# Altium footprint library F407_MB.PcbLib: 57 footprints (part 3 of 4)
Each footprint in its own frame and in the unit in brackets; x right, y up, seen from the top. Pads: shape width x height; smd on the part's side, far side on the other; paste and mask are expansions set on the pad; w line width, h text height; cw(c..) or ccw(c..) is an arc to the next point about the centre after c.
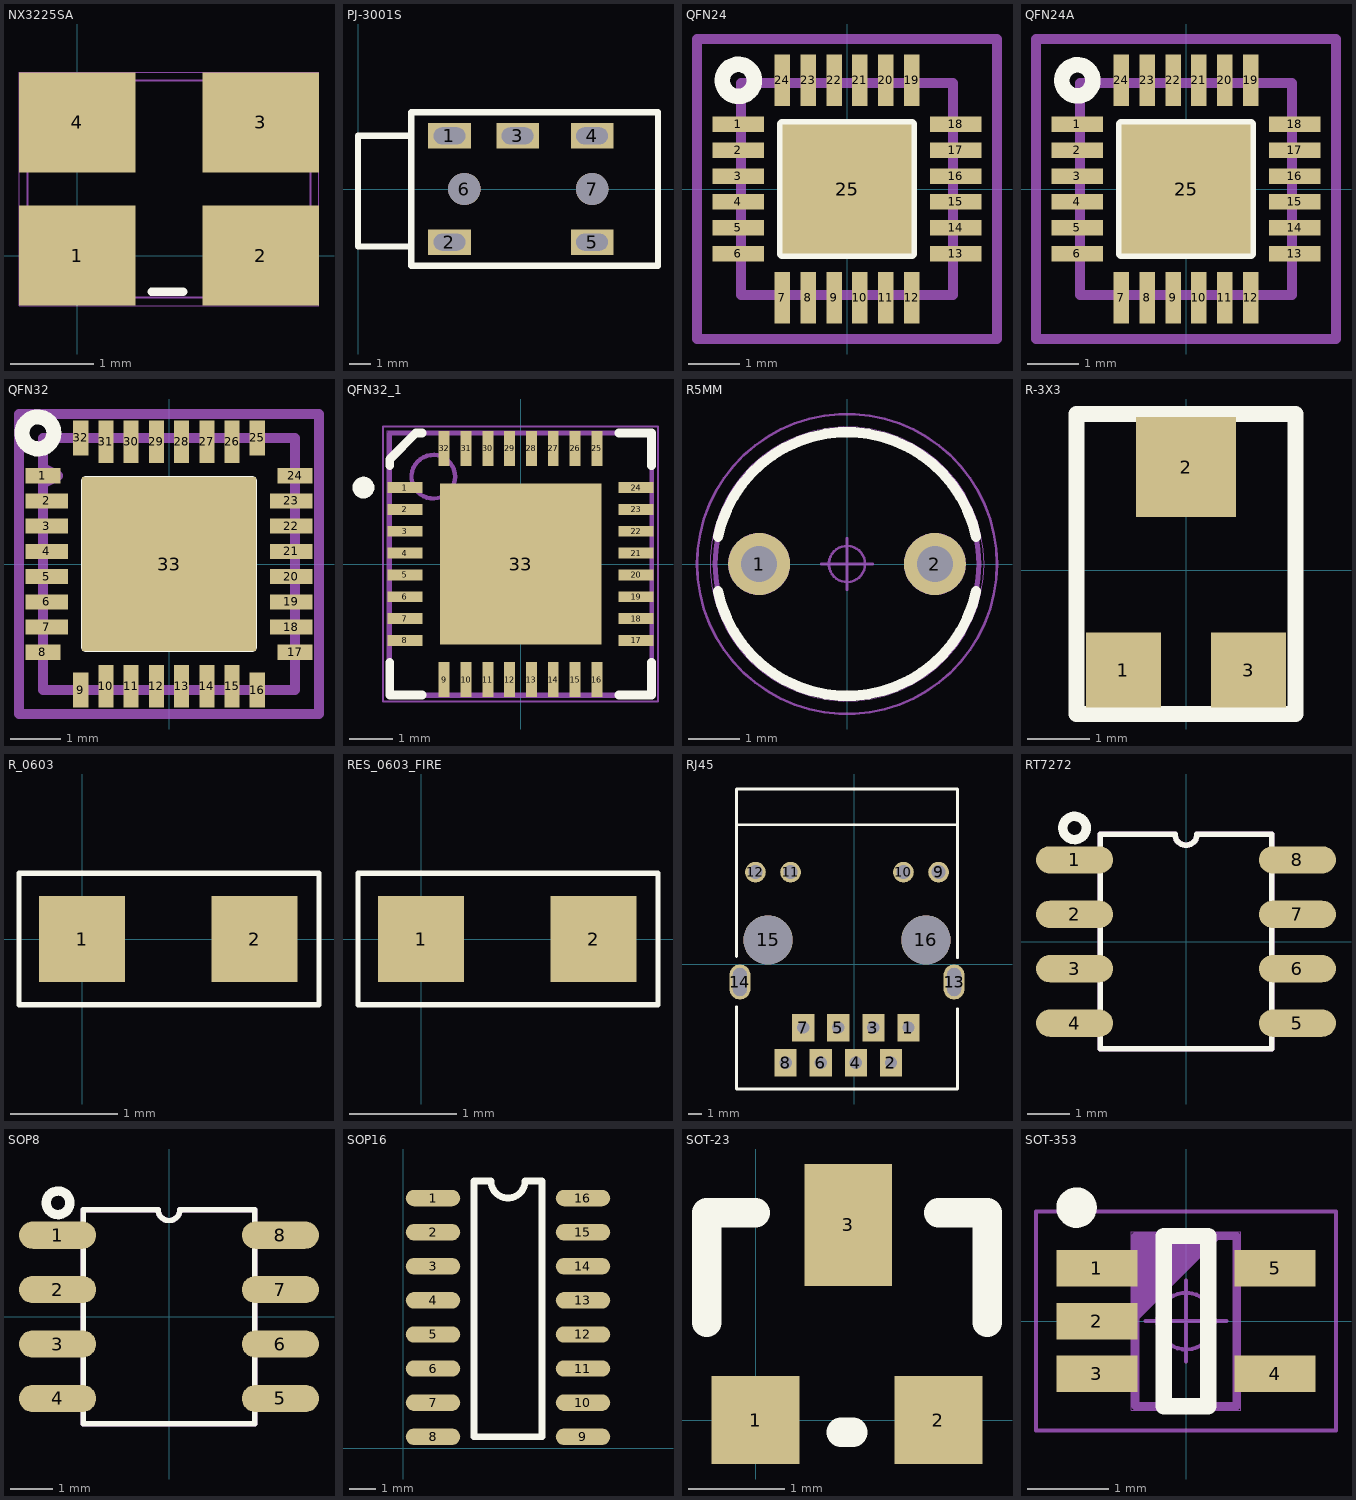
[diagram p2: the footprints below, top view; thin cyan lines are the x and y axes]

## NX3225SA [mm]
pads (4):
  rect 1.4x1.2 smd paste-0.06 mask+0.05: 1(0,0) 2(2.2,0) 3(2.2,1.6) 4(0,1.6)
Top Overlay:
  lines w0.1: 0.889,-0.432 1.27,-0.432
Mechanical 16:
  lines w0.003: -0.7,-0.6 2.9,-0.6 2.9,2.2 -0.7,2.2 -0.7,-0.6
  lines w0.025: -0.6,-0.5 2.8,-0.5 2.8,2.1 -0.6,2.1 -0.6,-0.5

## PJ-3001S [mm]
pads (7):
  rect 2x1.2 hole 0.787 slot 1.499 at 0 deg: 1(4.3,2.5) 2(4.3,-2.5) 3(7.5,2.5) 4(11,2.5) 5(11,-2.5)
  round 1.524 hole 1.524 unplated: 6(5,0) 7(11,0)
Top Overlay:
  lines w0.3: 0,-2.7 0,2.5 2.5,2.5 ; 0.1,-2.7 2.5,-2.7 ; 2.5,-3.6 14.1,-3.6 14.1,3.6 2.5,3.6 2.5,-3.6

## QFN24 [mm]
pads (25):
  rect 1x0.3 smd: 1(-2.1,1.25) 2(-2.1,0.75) 3(-2.1,0.25) 4(-2.1,-0.25) 5(-2.1,-0.75) 6(-2.1,-1.25) 13(2.1,-1.25) 14(2.1,-0.75) 15(2.1,-0.25) 16(2.1,0.25) 17(2.1,0.75) 18(2.1,1.25)
  rect 0.3x1 smd: 7(-1.25,-2.1) 8(-0.75,-2.1) 9(-0.25,-2.1) 10(0.25,-2.1) 11(0.75,-2.1) 12(1.25,-2.1) 19(1.25,2.1) 20(0.75,2.1) 21(0.25,2.1) 22(-0.25,2.1) 23(-0.75,2.1) 24(-1.25,2.1)
  rect 2.5x2.5 smd: 25(0,0)
Top Overlay:
  circle w0.3: c-2.1,2.1 r0.31
  lines w0.2: -1.25,-1.25 1.25,-1.25 1.25,1.25 -1.25,1.25 -1.25,-1.25
Mechanical 1:
  lines w0.2: -2.05,-2.05 2.05,-2.05 2.05,2.05 -2.05,2.05 -2.05,-2.05
Mechanical 16:
  lines w0.2: -0.5,0 0,0 ; 0,-0.5 0,0 ; 0,0.5 0,0 ; 0.5,0 0,0 ; -2.9,-2.9 2.9,-2.9 2.9,2.9 -2.9,2.9 -2.9,-2.9

## QFN24A [mm]
pads (25):
  rect 1x0.3 smd: 1(-2.1,1.25) 2(-2.1,0.75) 3(-2.1,0.25) 4(-2.1,-0.25) 5(-2.1,-0.75) 6(-2.1,-1.25) 13(2.1,-1.25) 14(2.1,-0.75) 15(2.1,-0.25) 16(2.1,0.25) 17(2.1,0.75) 18(2.1,1.25)
  rect 0.3x1 smd: 7(-1.25,-2.1) 8(-0.75,-2.1) 9(-0.25,-2.1) 10(0.25,-2.1) 11(0.75,-2.1) 12(1.25,-2.1) 19(1.25,2.1) 20(0.75,2.1) 21(0.25,2.1) 22(-0.25,2.1) 23(-0.75,2.1) 24(-1.25,2.1)
  rect 2.5x2.5 smd: 25(0,0)
Top Overlay:
  circle w0.3: c-2.1,2.1 r0.3
  lines w0.2: -1.25,-1.25 1.25,-1.25 1.25,1.25 -1.25,1.25 -1.25,-1.25
Mechanical 1:
  lines w0.2: -2.05,-2.05 2.05,-2.05 2.05,2.05 -2.05,2.05 -2.05,-2.05
Mechanical 16:
  lines w0.2: -0.5,0 0,0 ; 0,-0.5 0,0 ; 0,0.5 0,0 ; 0.5,0 0,0 ; -2.9,-2.9 2.9,-2.9 2.9,2.9 -2.9,2.9 -2.9,-2.9

## QFN32 [mm]
pads (33):
  rect 0.7x0.3 smd: 1(-2.5,1.75) 8(-2.5,-1.75) 17(2.5,-1.75) 24(2.5,1.75)
  rect 0.85x0.3 smd: 2(-2.425,1.25) 3(-2.425,0.75) 4(-2.425,0.25) 5(-2.425,-0.25) 6(-2.425,-0.75) 7(-2.425,-1.25) 18(2.425,-1.25) 19(2.425,-0.75) 20(2.425,-0.25) 21(2.425,0.25) 22(2.425,0.75) 23(2.425,1.25)
  rect 0.3x0.7 smd: 9(-1.75,-2.5) 16(1.75,-2.5) 25(1.75,2.5) 32(-1.75,2.5)
  rect 0.3x0.85 smd: 10(-1.25,-2.425) 11(-0.75,-2.425) 12(-0.25,-2.425) 13(0.25,-2.425) 14(0.75,-2.425) 15(1.25,-2.425) 26(1.25,2.425) 27(0.75,2.425) 28(0.25,2.425) 29(-0.25,2.425) 30(-0.75,2.425) 31(-1.25,2.425)
  rect 3.45x3.45 smd: 33(0,0)
Top Overlay:
  circle w0.3: c-2.6,2.6 r0.316
  lines w0.2: -1.65,-1.65 1.65,-1.65 1.65,1.65 -1.65,1.65 -1.65,-1.65
Mechanical 1:
  lines w0.2: -2.5,-2.5 2.5,-2.5 2.5,2.5 -2.5,2.5 -2.5,1.9 -2.2,1.75 -2.5,1.6 -2.5,-2.5
Mechanical 16:
  lines w0.2: -0.5,0 0,0 ; 0,-0.5 0,0 ; 0,0.5 0,0 ; 0.5,0 0,0 ; -2.975,-2.975 2.975,-2.975 2.975,2.975 -2.975,2.975 -2.975,-2.975

## QFN32_1 [mm]
pads (33):
  rect 0.8x0.25 smd: 1(-2.65,1.75) 2(-2.65,1.25) 3(-2.65,0.75) 4(-2.65,0.25) 5(-2.65,-0.25) 6(-2.65,-0.75) 7(-2.65,-1.25) 8(-2.65,-1.75) 17(2.65,-1.75) 18(2.65,-1.25) 19(2.65,-0.75) 20(2.65,-0.25) 21(2.65,0.25) 22(2.65,0.75) 23(2.65,1.25) 24(2.65,1.75)
  rect 0.25x0.8 smd: 9(-1.75,-2.65) 10(-1.25,-2.65) 11(-0.75,-2.65) 12(-0.25,-2.65) 13(0.25,-2.65) 14(0.75,-2.65) 15(1.25,-2.65) 16(1.75,-2.65) 25(1.75,2.65) 26(1.25,2.65) 27(0.75,2.65) 28(0.25,2.65) 29(-0.25,2.65) 30(-0.75,2.65) 31(-1.25,2.65) 32(-1.75,2.65)
  rect 3.7x3.7 smd paste-0.49: 33(0,0)
Top Overlay:
  circle w0.25: c-3.6,1.75 r0.125
  lines w0.2: -3,-2.25 -3,-3 -2.25,-3 ; -3,2.25 -3,2.4 -2.4,3 -2.25,3 ; 2.25,-3 3,-3 3,-2.25 ; 2.25,3 3,3 3,2.25
Mechanical 1:
  circle w0.1: c-2,2 r0.5
  lines w0.1: -3,-3 -3,3 3,3 3,-3 -3,-3
  text "U14" at -0.971,-0.45 h0.75
Mechanical 16:
  circle w0.05: c0,0 r0.35
  lines w0.001: -3.05,-3.05 -3.05,3.05 3.05,3.05 3.05,-3.05 -3.05,-3.05
  lines w0.05: -0.5,0 0.5,0 ; 0,-0.5 0,0.5 ; -3.15,-3.15 -3.15,3.15 3.15,3.15 3.15,-3.15 -3.15,-3.15

## R5MM [mm]
pads (2):
  round 1.2 hole 0.7: 1(-1.7,0) 2(1.7,0)
Top Overlay:
  lines w0.2: -2.494,-0.53 ccw(c0,0) 2.494,-0.53 ; -2.494,0.53 cw(c0,0) 2.494,0.53
Mechanical 1:
  circle w0.1: c0,0 r2.55
  circle w0.1: c-1.7,0 r0.55
  circle w0.1: c1.7,0 r0.55
  text "D8" at -0.711,-0.502 h0.75
Mechanical 2:
  circle w0.1: c-1.7,0 r0.55
  circle w0.1: c1.7,0 r0.55
Mechanical 16:
  circle w0.001: c0,0 r2.65
  circle w0.05: c0,0 r2.9
  circle w0.05: c0,0 r0.35
  lines w0.05: -0.5,0 0.5,0 ; 0,-0.5 0,0.5

## R-3X3 [mm]
pads (3):
  rect 1.2x1.2 smd: 1(-1,-1.6) 3(1,-1.6)
  rect 1.6x1.6 smd: 2(0,1.65)
Top Overlay:
  lines w0.254: -1.75,2.5 -1.75,-2.3 1.75,-2.3 1.75,2.5 -1.7,2.5

## R_0603 [mm]
pads (2):
  rect 0.8x0.8 smd: 1(0,0) 2(1.6,0)
Top Overlay:
  lines w0.051: -0.584,-0.61 2.197,-0.61 2.197,0.61 -0.584,0.61 -0.584,-0.61

## RES_0603_FIRE [mm]
pads (2):
  rect 0.8x0.8 smd: 1(0,0) 2(1.6,0)
Top Overlay:
  lines w0.051: -0.584,-0.61 2.197,-0.61 2.197,0.61 -0.584,0.61 -0.584,-0.61

## RJ45 [mm]
pads (16):
  rect 1.6x2 hole 0.89: 1(3.942,-4.572) 2(2.672,-7.112) 3(1.402,-4.572) 4(0.132,-7.112) 5(-1.138,-4.572) 6(-2.408,-7.112) 7(-3.678,-4.572) 8(-4.948,-7.112)
  round 1.5 hole 1.02: 9(6.117,6.678) 10(3.577,6.678) 11(-4.593,6.678) 12(-7.133,6.678)
  oval 1.524x2.54 hole 1.016 slot 2.032 at 90 deg: 13(7.242,-1.272) 14(-8.258,-1.272)
  round 3.556 hole 3.556: 15(-6.223,1.778) 16(5.207,1.778)
Top Overlay:
  lines w0.2: -8.508,-3.069 -8.508,-9.017 7.492,-9.017 7.492,-3.2 ; -8.508,0.575 -8.508,12.698 7.492,12.698 7.492,0.481 ; -8.508,10.103 7.492,10.103

## RT7272 [mm]
pads (8):
  oval 1.8x0.635 smd: 1(-2.6,1.905) 2(-2.6,0.635) 3(-2.6,-0.635) 4(-2.6,-1.905) 5(2.6,-1.905) 6(2.6,-0.635) 7(2.6,0.635) 8(2.6,1.905)
Top Overlay:
  circle w0.22: c-2.6,2.65 r0.272
  lines w0.127: -2,-2.5 -2,2.5 -0.254,2.5 ccw(c0,2.5) 0.254,2.5 2,2.5 2,-2.5 -2,-2.5
Mechanical 1:
  lines w0.127: -2,-2.5 -2,2.5 -0.254,2.5 ccw(c0,2.5) 0.254,2.5 2,2.5 2,-2.5 -2,-2.5

## SOP8 [mm]
pads (8):
  oval 1.8x0.635 smd: 1(-2.6,1.905) 2(-2.6,0.635) 3(-2.6,-0.635) 4(-2.6,-1.905) 5(2.6,-1.905) 6(2.6,-0.635) 7(2.6,0.635) 8(2.6,1.905)
Top Overlay:
  circle w0.22: c-2.59,2.66 r0.276
  lines w0.127: -2,-2.5 -2,2.5 -0.254,2.5 ccw(c0,2.5) 0.254,2.5 2,2.5 2,-2.5 -2,-2.5
Mechanical 1:
  lines w0.127: -2,-2.5 -2,2.5 -0.254,2.5 ccw(c0,2.5) 0.254,2.5 2,2.5 2,-2.5 -2,-2.5

## SOP16 [mil]
pads (16):
  oval 80x24 smd: 1(44,367) 2(44,317) 3(44,267) 4(44,217) 5(44,167) 6(44,117) 7(44,67) 8(44,17) 9(264,17) 10(264,67) 11(264,117) 12(264,167) 13(264,217) 14(264,267) 15(264,317) 16(264,367)
Top Overlay:
  lines w10: 104,17 204,17 204,392 179,392 cw(c154,392) 129,392 104,392 104,17

## SOT-23 [mil]
pads (3):
  rect 36x36 smd: 1(0,0) 2(75,0)
  rect 36x50 smd: 3(38,80)
Top Overlay:
  lines w12: -20,40 -20,85 0,85 ; 35,-5 40,-5 ; 75,85 95,85 95,40

## SOT-353 [mm]
pads (5):
  rect 1x0.45 smd: 1(-1.1,0.65) 2(-1.1,0) 3(-1.1,-0.65) 4(1.1,-0.65) 5(1.1,0.65)
Top Overlay:
  circle w0.25: c-1.35,1.4 r0.125
  lines w0.2: -0.275,-1.05 0.275,-1.05 0.275,1.05 -0.275,1.05 -0.275,-1.05
Mechanical 1:
  lines w0.1: -0.625,0.05 0.375,1.05 ; -0.625,0.15 0.275,1.05 ; -0.625,0.25 0.175,1.05 ; -0.625,0.35 0.075,1.05 ; -0.625,0.45 -0.025,1.05 ; -0.625,0.55 -0.125,1.05 ; -0.625,0.65 -0.225,1.05 ; -0.625,0.75 -0.325,1.05 ; -0.625,0.85 -0.425,1.05 ; -0.625,0.95 -0.525,1.05 ; -0.625,-1.05 0.625,-1.05 0.625,1.05 -0.625,1.05 -0.625,-1.05
  text "U18" at 0.255,-0.54 h0.43
Mechanical 16:
  circle w0.05: c0,0 r0.35
  lines w0.001: -0.675,-1.1 0.675,-1.1 0.675,1.1 -0.675,1.1 -0.675,-1.1
  lines w0.05: -0.5,0 0.5,0 ; 0,-0.5 0,0.5 ; -1.85,-1.35 1.85,-1.35 1.85,1.35 -1.85,1.35 -1.85,-1.35